# Altium footprint library SX1262_e428v03a.PcbLib: 56 footprints (part 1 of 4)
Each footprint in its own frame and in the unit in brackets; x right, y up, seen from the top. Pads: shape width x height; smd on the part's side, far side on the other; paste and mask are expansions set on the pad; w line width, h text height; cw(c..) or ccw(c..) is an arc to the next point about the centre after c.
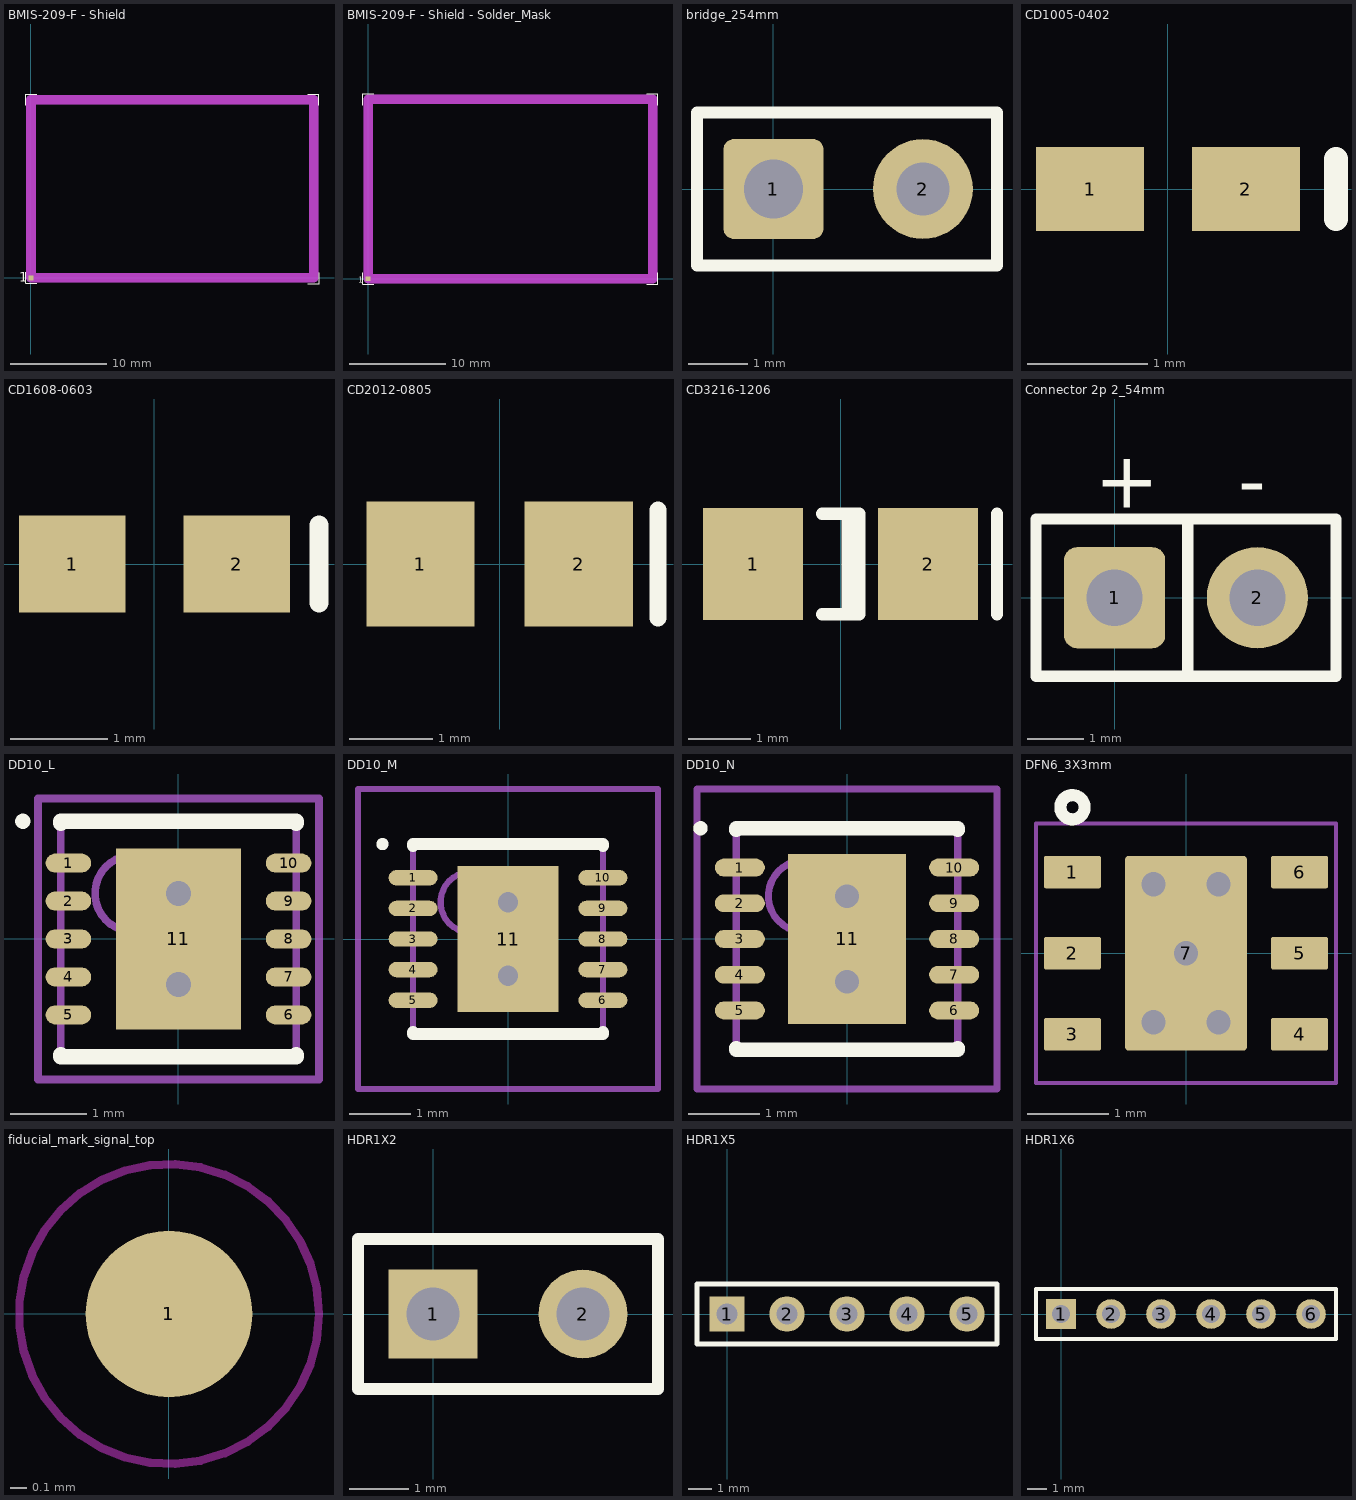
[diagram p0: the footprints below, top view; thin cyan lines are the x and y axes]

## BMIS-209-F - Shield [mm] "BMIS-209-F EMI Gasket - modif SolderMask - Standard Surface Mount Shields -  Laird Technologies"
height 6.5
pads (1):
  rect 0.5x0.5 smd paste-1 mask+0.05: 1(0,0)
Top Overlay:
  lines w0.1: -0.55,0.6 -0.55,-0.55 0.6,-0.55 ; -0.55,18 -0.55,19.15 0.6,19.15 ; 28.9,-0.6 30.05,-0.6 30.05,0.55 ; 28.9,19.15 30.05,19.15 30.05,18
  text "1" at -1.25,-0.4 h1
Top Paste:
  region: 4.35,19 4.35,18 -0.4,18 -0.4,19
  region: 7.1,19 10.3,19 10.3,18 7.1,18
  region: 13.1,19 16.35,19 16.35,18 13.1,18
  region: 19.1,19 22.3,19 22.3,18 19.1,18
  region: 25.1,19 29.9,19 29.9,18 25.1,18
  region: 28.9,4.85 29.9,4.85 29.9,-0.45 28.9,-0.45
  region: 28.9,10.85 29.9,10.85 29.9,7.65 28.9,7.65
  region: 28.9,13.65 28.9,18.95 29.9,18.95 29.9,13.65
  region: -0.4,13.7 -0.4,19 0.6,19 0.6,13.7
  region: -0.4,10.9 0.6,10.9 0.6,7.7 -0.4,7.7
  region: -0.4,4.6 0.6,4.6 0.6,-0.4 -0.4,-0.4
  region: 25.1,0.55 29.9,0.55 29.9,-0.45 25.1,-0.45
  region: 19.1,0.6 22.3,0.6 22.3,-0.4 19.1,-0.4
  region: 13.1,0.6 16.35,0.6 16.35,-0.4 13.1,-0.4
  region: 7.1,0.6 10.3,0.6 10.3,-0.4 7.1,-0.4
  region: 4.35,0.6 4.35,-0.4 -0.4,-0.4 -0.4,0.6
Top Solder:
  region: 28.9,13.65 28.9,18.95 29.9,18.95 29.9,13.65
  region: 28.9,7.65 28.9,10.85 29.9,10.85 29.9,7.65
  region: 28.9,-0.45 28.9,4.85 29.9,4.85 29.9,-0.45
  region: -0.4,-0.4 -0.4,4.6 0.6,4.6 0.6,-0.4
  region: -0.4,7.7 -0.4,10.9 0.6,10.9 0.6,7.7
  region: -0.4,13.7 -0.4,19 0.6,19 0.6,13.7
  region: 4.35,-0.4 -0.4,-0.4 -0.4,0.6 4.35,0.6
  region: 10.3,-0.4 7.1,-0.4 7.1,0.6 10.3,0.6
  region: 16.35,-0.4 13.1,-0.4 13.1,0.6 16.35,0.6
  region: 29.9,-0.45 25.1,-0.45 25.1,0.55 29.9,0.55
  region: 22.3,-0.4 19.1,-0.4 19.1,0.6 22.3,0.6
  region: 22.3,18 19.1,18 19.1,19 22.3,19
  region: 29.9,18 25.1,18 25.1,19 29.9,19
  region: 16.35,18 13.1,18 13.1,19 16.35,19
  region: 10.3,18 7.1,18 7.1,19 10.3,19
  region: 4.35,18 -0.4,18 -0.4,19 4.35,19
Mechanical 15 keep-out:
  lines w1: 0,0 29.5,0 29.5,18.6 0,18.6 0,0
3D body: height 0.8, standoff 0.2, extent -0.3,-0.3 0.3,0.3

## BMIS-209-F - Shield - Solder_Mask [mm] "BMIS-209-F EMI Gasket - modif SolderMask - Standard Surface Mount Shields -  Laird Technologies"
height 6.5
pads (1):
  rect 0.5x0.5 smd paste-1 mask+0.05: 1(0,0)
Top Overlay:
  lines w0.1: -0.55,0.6 -0.55,-0.55 0.6,-0.55 ; -0.55,18 -0.55,19.15 0.6,19.15 ; 28.9,-0.55 30.05,-0.55 30.05,0.6 ; 28.9,19.15 30.05,19.15 30.05,18
  text "1" at -1.05,-0.4 h0.6
Top Paste:
  region: -0.4,7.7 -0.4,19 0.6,19 0.6,7.7
  region: 29.9,0.6 29.9,-0.4 -0.4,-0.4 -0.4,0.6
  region: -0.4,4.6 0.6,4.6 0.6,-0.4 -0.4,-0.4
  region: 28.9,6.65 28.9,19 29.9,19 29.9,6.65
  region: 28.9,5.6 29.9,5.6 29.9,-0.4 28.9,-0.4
  region: 29.9,19 29.9,18 -0.4,18 -0.4,19
Top Solder:
  region: 29.9,19 29.9,18 -0.4,18 -0.4,19
  region: 28.9,5.6 29.9,5.6 29.9,-0.4 28.9,-0.4
  region: 28.9,6.65 28.9,19 29.9,19 29.9,6.65
  region: -0.4,4.6 0.6,4.6 0.6,-0.4 -0.4,-0.4
  region: 29.9,0.6 29.9,-0.4 -0.4,-0.4 -0.4,0.6
  region: -0.4,7.7 -0.4,19 0.6,19 0.6,7.7
Mechanical 15 keep-out:
  lines w1: 0,0 0,18.6 29.5,18.6 29.5,0 0,0
3D body: height 0.8, standoff 0.2, extent -0.3,-0.3 0.3,0.3

## bridge_254mm [mm] "Generic Bridge 2.54mm, 2 Leads 0.9mm;"
height 1
pads (2):
  rrect20% 1.7x1.7 hole 1 paste+0 mask+0.05: 1(0,0)
  round 1.7 hole 0.9 paste+0 mask+0.05: 2(2.54,0)
Top Overlay:
  lines w0.2: -1.3,-1.3 -1.3,1.3 3.8,1.3 3.8,-1.3 -1.3,-1.3

## CD1005-0402 [mm] "Chip Diode; Body 1.0 x 0.5 mm (LxW typ)"
height 0.6
pads (2):
  rect 0.9x0.7 smd mask+0.05: 1(-0.65,0) 2(0.65,0)
Top Overlay:
  lines w0.2: 1.4,-0.25 1.4,0.25

## CD1608-0603 [mm] "Chip Diode; Body 1.6 x 0.8 mm (LxW typ)"
height 0.85
pads (2):
  rect 1.1x1 smd mask+0.05: 1(-0.85,0) 2(0.85,0)
Top Overlay:
  lines w0.2: 1.7,-0.4 1.7,0.4

## CD2012-0805 [mm] "Chip Diode; Body 2.0 x 1.3 mm (LxW typ)"
height 1.1
pads (2):
  rect 1.3x1.5 smd mask+0.05: 1(-0.95,0) 2(0.95,0)
Top Overlay:
  lines w0.2: 1.9,-0.65 1.9,0.65

## CD3216-1206 [mm] "Chip Diode; Body 3.2 x 1.6 mm (LxW typ)"
height 1.35
pads (2):
  rect 1.6x1.8 smd mask+0.05: 1(-1.4,0) 2(1.4,0)
Top Overlay:
  lines w0.2: -0.3,-0.8 0.3,-0.8 0.3,0.8 -0.3,0.8 ; 0.11,-0.8 0.11,0.8 ; 2.5,-0.8 2.5,0.8

## Connector 2p 2_54mm [mm] "Generic connector 2.54mm, 2 Leads 1mm;"
height 1
pads (2):
  rrect25% 1.8x1.8 hole 1 paste+0 mask+0.05: 1(0,0)
  round 1.8 hole 1 paste+0 mask+0.05: 2(2.54,0)
Top Overlay:
  lines w0.2: 1.3,-1.4 1.3,1.4 ; -1.4,-1.4 3.94,-1.4 3.94,1.4 -1.4,1.4 -1.4,-1.4
  text "+" at -0.35,1.6 h1
  text "-" at 2.2,1.6 h1

## DD10_L [mm] "SON, 10-Leads, Body 3x3 mm, Pitch 0.5mm, IPC High Density"
height 0.8
pads (11):
  oval 0.6x0.25 smd: 1(-1.45,1) 2(-1.45,0.5) 3(-1.45,0) 4(-1.45,-0.5) 5(-1.45,-1) 6(1.45,-1) 7(1.45,-0.5) 8(1.45,0) 9(1.45,0.5) 10(1.45,1)
  rect 1.65x2.38 smd: 11(0,0)
via 0,0.6 diameter 0.66 hole 0.33
via 0,-0.6 diameter 0.66 hole 0.33
Top Overlay:
  circle w0.1: c-2.05,1.55 r0.05
  lines w0.2: -1.55,-1.525 -1.55,-1.55 1.55,-1.55 1.55,-1.525 ; -1.55,1.525 -1.55,1.55 1.55,1.55 1.55,1.525
Mechanical 13:
  circle w0.1: c-0.6,0.6 r0.5
  lines w0.1: -1.55,-1.55 1.55,-1.55 1.55,1.55 -1.55,1.55 -1.55,-1.55
Mechanical 15:
  lines w0.1: -0.5,0 0.5,0 ; 0,-0.5 0,0.5 ; -1.85,-1.85 1.85,-1.85 1.85,1.85 -1.85,1.85 -1.85,-1.85
3D body: height 0.8, standoff 0, extent -1.55,-1.55 1.55,1.55

## DD10_M [mm] "SON, 10-Leads, Body 3x3 mm, Pitch 0.5mm, IPC Low Density"
height 0.8
pads (11):
  oval 0.8x0.25 smd: 1(-1.55,1) 2(-1.55,0.5) 3(-1.55,0) 4(-1.55,-0.5) 5(-1.55,-1) 6(1.55,-1) 7(1.55,-0.5) 8(1.55,0) 9(1.55,0.5) 10(1.55,1)
  rect 1.65x2.38 smd: 11(0,0)
via 0,0.6 diameter 0.66 hole 0.33
via 0,-0.6 diameter 0.66 hole 0.33
Top Overlay:
  circle w0.1: c-2.05,1.55 r0.05
  lines w0.2: -1.55,-1.525 -1.55,-1.55 1.55,-1.55 1.55,-1.525 ; -1.55,1.525 -1.55,1.55 1.55,1.55 1.55,1.525
Mechanical 13:
  circle w0.1: c-0.6,0.6 r0.5
  lines w0.1: -1.55,-1.55 1.55,-1.55 1.55,1.55 -1.55,1.55 -1.55,-1.55
Mechanical 15:
  lines w0.1: -0.5,0 0.5,0 ; 0,-0.5 0,0.5 ; -2.45,-2.45 2.45,-2.45 2.45,2.45 -2.45,2.45 -2.45,-2.45
3D body: height 0.8, standoff 0, extent -1.55,-1.55 1.55,1.55

## DD10_N [mm] "SON, 10-Leads, Body 3x3 mm, Pitch 0.5mm, IPC Medium Density"
height 0.8
pads (11):
  oval 0.7x0.25 smd: 1(-1.5,1) 2(-1.5,0.5) 3(-1.5,0) 4(-1.5,-0.5) 5(-1.5,-1) 6(1.5,-1) 7(1.5,-0.5) 8(1.5,0) 9(1.5,0.5) 10(1.5,1)
  rect 1.65x2.38 smd: 11(0,0)
via 0,-0.6 diameter 0.66 hole 0.33
via 0,0.6 diameter 0.66 hole 0.33
Top Overlay:
  circle w0.1: c-2.05,1.55 r0.05
  lines w0.2: -1.55,-1.525 -1.55,-1.55 1.55,-1.55 1.55,-1.525 ; -1.55,1.525 -1.55,1.55 1.55,1.55 1.55,1.525
Mechanical 13:
  circle w0.1: c-0.6,0.6 r0.5
  lines w0.1: -1.55,-1.55 -1.55,1.55 1.55,1.55 1.55,-1.55 -1.55,-1.55
Mechanical 15:
  lines w0.1: -0.5,0 0.5,0 ; 0,-0.5 0,0.5 ; -2.1,-2.1 -2.1,2.1 2.1,2.1 2.1,-2.1 -2.1,-2.1
3D body: height 0.8, standoff 0, extent -1.55,-1.55 1.55,1.55

## DFN6_3X3mm [mm] "6 Leads, Body 3x3mm, pitch 1.0mm, DFN6"
height 1
pads (7):
  rrect10% 0.7x0.4 smd paste+0 mask+0.05: 1(-1.4,1) 2(-1.4,0) 3(-1.4,-1) 4(1.4,-1) 5(1.4,0) 6(1.4,1)
  rrect5% 1.5x2.4 smd paste-0.2 mask+0.05: 7(0,0)
via 0,0 diameter 0.6 hole 0.3
via 0.4,0.85 diameter 0.6 hole 0.3
via -0.4,-0.85 diameter 0.6 hole 0.3
via -0.4,0.85 diameter 0.6 hole 0.3
via 0.4,-0.85 diameter 0.6 hole 0.3
Top Overlay:
  circle w0.15: c-1.4,1.8 r0.15
Top Paste:
  region: 0.15,0.15 -0.15,0.15 -0.15,-0.15 0.15,-0.15
Mechanical 15:
  lines w0.05: -1.85,-1.6 -1.85,1.6 1.85,1.6 1.85,-1.6 -1.85,-1.6
3D body: height 1, standoff 0, extent -1.5,-1.5 1.5,1.5

## fiducial_mark_signal_top [mm] "Fiducial mark for automatic assembly"
height 1
pads (1):
  round 1 smd paste-2 mask+0.5: 1(0,0)
Top Layer keep-out:
  circle w0.05: c0,0 r0.9

## HDR1X2 [mm] "Connector; Header; 2 Position"
pads (2):
  rect 1.5x1.5 hole 0.9: 1(0,0)
  round 1.5 hole 0.9: 2(2.54,0)
Top Overlay:
  lines w0.2: -1.27,-1.27 -1.27,1.27 3.81,1.27 3.81,-1.27 -1.27,-1.27

## HDR1X5 [mm] "Connector; Header; 5 Position"
pads (5):
  rect 1.5x1.5 hole 0.9: 1(0,0)
  round 1.5 hole 0.9: 2(2.54,0) 3(5.08,0) 4(7.62,0) 5(10.16,0)
Top Overlay:
  lines w0.2: -1.27,-1.27 -1.27,1.27 11.43,1.27 11.43,-1.27 -1.27,-1.27

## HDR1X6 [mm] "Connector; Header; 6 Position"
pads (6):
  rect 1.5x1.5 hole 0.9: 1(0,0)
  round 1.5 hole 0.9: 2(2.54,0) 3(5.08,0) 4(7.62,0) 5(10.16,0) 6(12.7,0)
Top Overlay:
  lines w0.2: -1.27,-1.27 13.97,-1.27 13.97,1.27 -1.27,1.27 -1.27,-1.27